# Altium integrated library SR1206FR-071KL.IntLib: 1 symbol
Pins are listed as number, name and electrical type; pins without a type are passive.

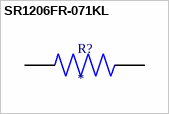
[diagram p0: symbol SR1206FR-071KL]

## SR1206FR-071KL
designator R?
Surge Chip Resistor Automotive Grade Thick Film 1206 1kOhm 1% Paper T/R; MF: Yageo Corporation; MP: SR1206FR071KL; SnapEDA_Link: https://www.snapeda.com/parts/SR1206FR071KL/Yageo/view-part/?ref=snap; Package: 1206-2 YAGEO; Value: *; Check_prices: https://www.snapeda.com/parts/SR1206FR071KL/Yageo/view-part/?ref=eda
footprint RESC3116X65N
pins: 1, 2